# EAGLE library part MOLEX-43045-2007 (library con-Molex-43045)
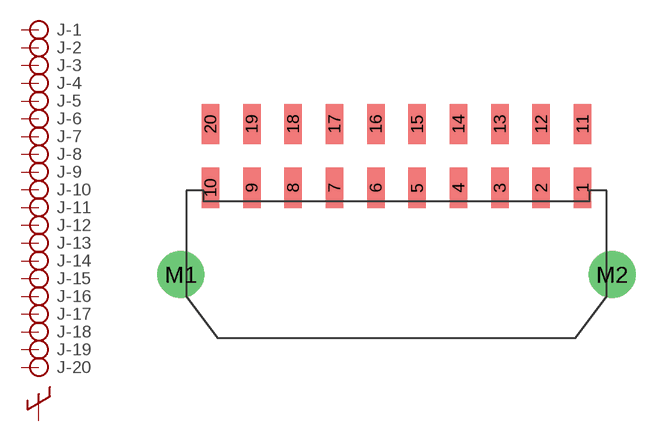
[diagram p0: symbol with the pads of MOLEX-43045-2007; footprint MOLEX-43045-2007]

Designator prefix J; gates -1=PIN -2=PIN -3=PIN -4=PIN -5=PIN -6=PIN -7=PIN -8=PIN -9=PIN -10=PIN -11=PIN -12=PIN -13=PIN -14=PIN -15=PIN -16=PIN -17=PIN -18=PIN -19=PIN -20=PIN -M=MECHANICAL

## MOLEX-43045-2007  [MOLEX-43045-2007]
1  -1:P  pas
2  -2:P  pas
3  -3:P  pas
4  -4:P  pas
5  -5:P  pas
6  -6:P  pas
7  -7:P  pas
8  -8:P  pas
9  -9:P  pas
10  -10:P  pas
11  -11:P  pas
12  -12:P  pas
13  -13:P  pas
14  -14:P  pas
15  -15:P  pas
16  -16:P  pas
17  -17:P  pas
18  -18:P  pas
19  -19:P  pas
20  -20:P  pas
M1  -M:M  pas
M2  -M:M  pas

## Footprint MOLEX-43045-2007 (pad centres in mm)
smd 1.27 x 2.92: 1 13.5,10.895; 2 10.5,10.895; 3 7.5,10.895; 4 4.5,10.895; 5 1.5,10.895; 6 -1.5,10.895; 7 -4.5,10.895; 8 -7.5,10.895; 9 -10.5,10.895; 10 -13.5,10.895; 11 13.5,15.525; 12 10.5,15.525; 13 7.5,15.525; 14 4.5,15.525; 15 1.5,15.525; 16 -1.5,15.525; 17 -4.5,15.525; 18 -7.5,15.525; 19 -10.5,15.525; 20 -13.5,15.525
drill 2.41: M1 -15.65,4.6; M2 15.65,4.6